# Altium footprint library transistor-small-signal.PCBLIB: 107 footprints (part 1 of 7)
Each footprint in its own frame and in the unit in brackets; x right, y up, seen from the top. Pads: shape width x height; smd on the part's side, far side on the other; paste and mask are expansions set on the pad; w line width, h text height; cw(c..) or ccw(c..) is an arc to the next point about the centre after c.
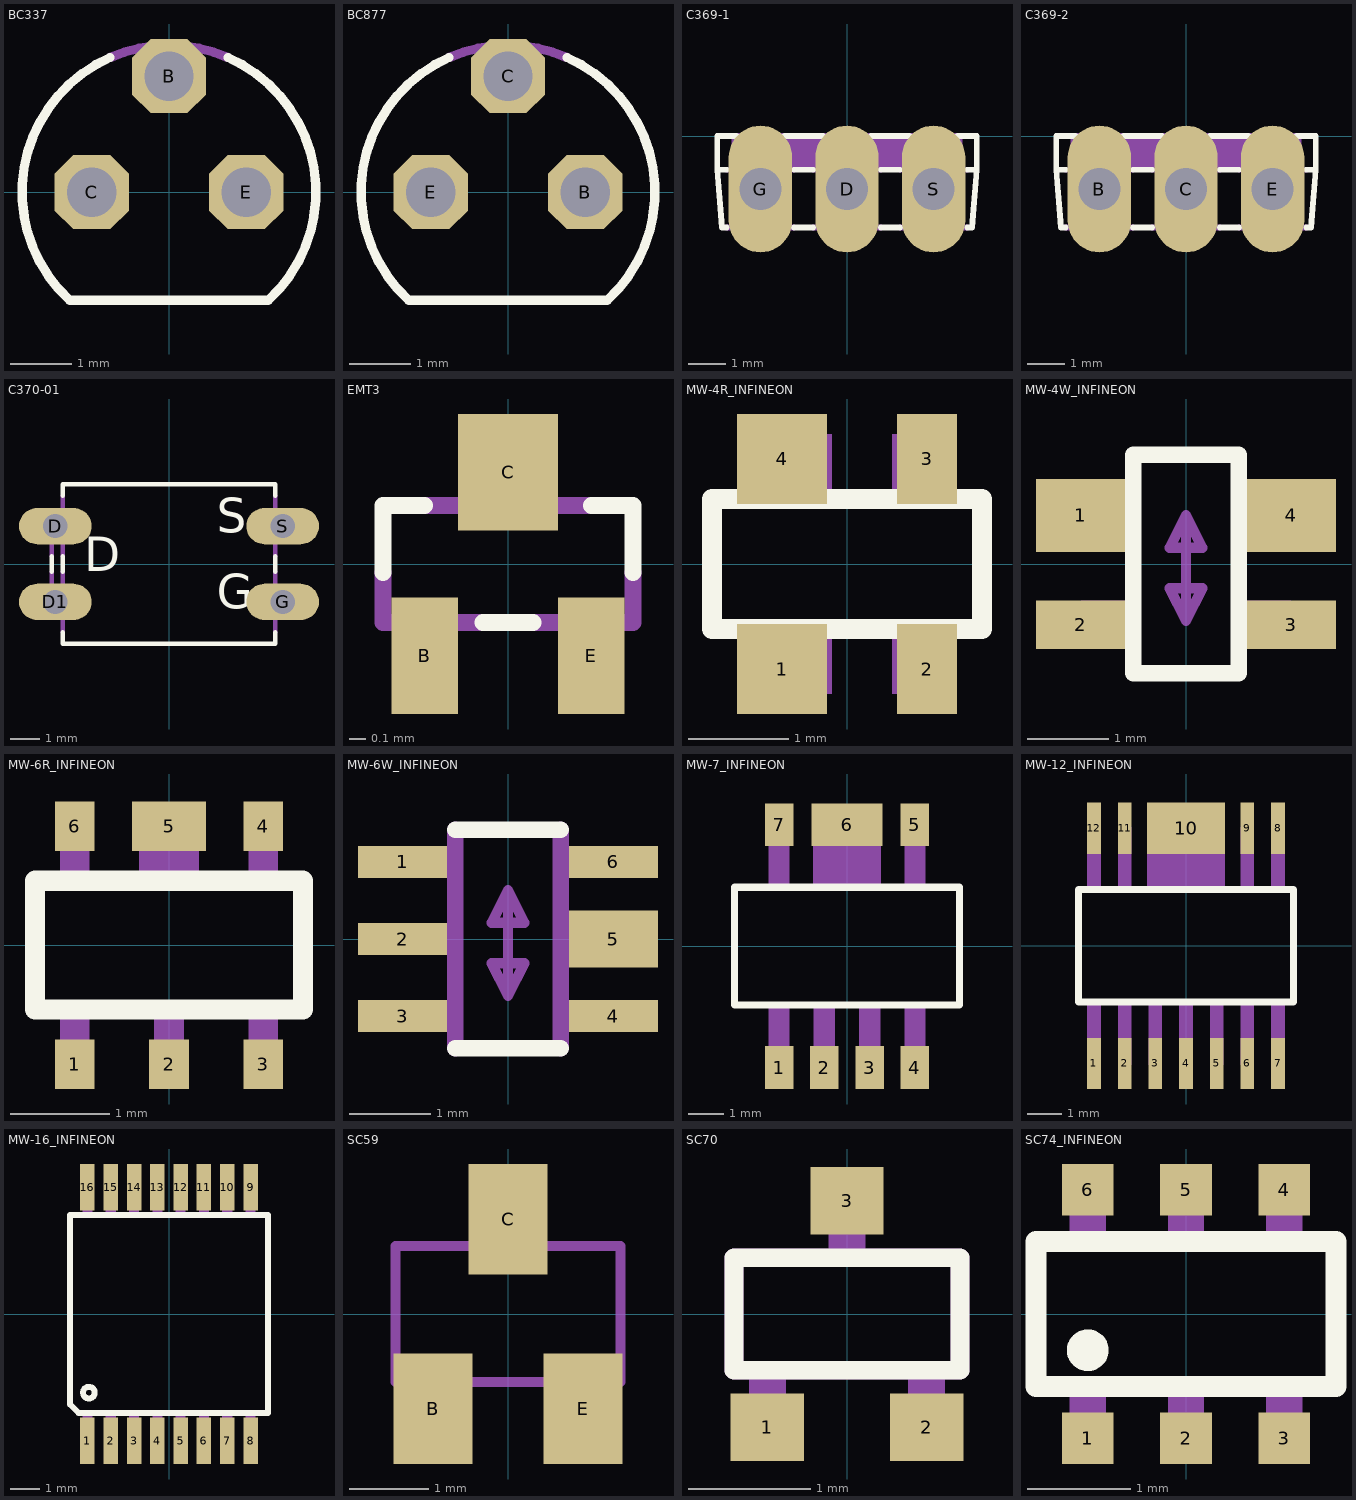
[diagram p0: the footprints below, top view; thin cyan lines are the x and y axes]

## BC337 [mil]
pads (3):
  oct 48x48 hole 32: B(0,75) C(-50,0) E(50,0)
Top Overlay:
  lines w6: -38.15,87 ccw(c0.01,0) -64.21,-70 64.21,-70 ccw(c-0.01,0) 38.15,87
Mechanical 16:
  lines w6: -38.16,87 cw(c0,-0.01) 38.16,87

## BC877 [mil]
pads (3):
  oct 48x48 hole 32: B(50,0) C(0,75) E(-50,0)
Top Overlay:
  lines w6: -38.15,87 ccw(c0.01,0) -64.21,-70 64.21,-70 ccw(c-0.01,0) 38.15,87
Mechanical 16:
  lines w6: -38.16,87 cw(c0,-0.01) 38.16,87

## C369-1 [mil]
pads (3):
  oval 66x132 hole 44: D(0,-55) G(-90,-55) S(90,-55)
Top Overlay:
  lines w6: -125,-95 -130,-95 -135,-35 ; -125,-35 -135,-35 ; -115,0 -135,0 -135,-35 ; -65,0 -25,0 ; -55,-95 -35,-95 ; -55,-35 -35,-35 ; 25,0 65,0 ; 35,-95 55,-95 ; 35,-35 55,-35 ; 115,0 135,0 135,-35 ; 125,-95 130,-95 135,-35 ; 125,-35 135,-35
Mechanical 16:
  rectangle: -120,-35 120,0
  lines w6: -125,-95 -55,-95 ; -125,-35 -55,-35 ; -115,0 -65,0 ; -35,-95 35,-95 ; -35,-35 35,-35 ; -25,0 25,0 ; 55,-95 125,-95 ; 55,-35 125,-35 ; 65,0 115,0

## C369-2 [mil]
pads (3):
  oval 66x132 hole 44: B(-90,-55) C(0,-55) E(90,-55)
Top Overlay:
  lines w6: -125,-95 -130,-95 -135,-35 ; -125,-35 -135,-35 ; -115,0 -135,0 -135,-35 ; -65,0 -25,0 ; -55,-95 -35,-95 ; -55,-35 -35,-35 ; 25,0 65,0 ; 35,-95 55,-95 ; 35,-35 55,-35 ; 115,0 135,0 135,-35 ; 125,-95 130,-95 135,-35 ; 125,-35 135,-35
Mechanical 16:
  rectangle: -120,-35 120,0
  lines w6: -125,-95 -55,-95 ; -125,-35 -55,-35 ; -115,0 -65,0 ; -35,-95 35,-95 ; -35,-35 35,-35 ; -25,0 25,0 ; 55,-95 125,-95 ; 55,-35 125,-35 ; 65,0 115,0

## C370-01 [mil]
pads (4):
  oval 96x48 hole 32: D(-150,50) D1(-150,-50) G(150,-50) S(150,50)
Top Overlay:
  lines w6: -155,-10 -155,10 ; -140,-90 -140,-105 140,-105 140,-90 ; -140,-10 -140,10 ; -140,90 -140,105 140,105 140,90 ; 140,-10 140,10
  text "D" at -112,-25 h77.5
  text "S" at 63,26 h77.5
  text "G" at 63,-74 h77.5
Mechanical 16:
  lines w6: -155,-10 -155,-65 -140,-65 ; -155,10 -155,65 -140,65 ; -140,-90 -140,-65 ; -140,-10 -140,-65 ; -140,10 -140,65 ; -140,90 -140,65 ; 140,-90 140,-65 ; 140,-10 140,-35 ; 140,10 140,35 ; 140,90 140,65 ; 140,-65 140,-35 ; 140,-65 155,-65 155,-35 140,-35 ; 140,35 140,65 ; 140,35 155,35 155,65 140,65

## EMT3 [mil]
pads (3):
  rect 15.75x27.56 smd: B(-19.69,-21.65) E(19.69,-21.65)
  rect 23.62x27.56 smd: C(0,21.65)
Top Overlay:
  lines w4: -29.53,-1.97 -29.53,13.78 -19.69,13.78 ; -5.91,-13.78 5.91,-13.78 ; 19.69,13.78 29.53,13.78 29.53,-1.97
Mechanical 16:
  rectangle: -5.91,13.78 5.91,31.5
  rectangle: 15.75,-31.5 23.62,-13.78
  rectangle: -23.62,-31.5 -15.75,-13.78
  lines w4: -29.53,-1.97 -29.53,-13.78 -5.91,-13.78 ; -19.69,13.78 19.69,13.78 ; 5.91,-13.78 29.53,-13.78 29.53,-1.97

## MW-4R_INFINEON [mil]
pads (4):
  rect 35.43x35.43 smd: 1(-25.59,-41.34) 4(-25.59,41.34)
  rect 23.62x35.43 smd: 2(31.5,-41.34) 3(31.5,41.34)
Top Overlay:
  lines w8: -53.15,-25.59 -53.15,25.59 53.15,25.59 53.15,-25.59 -53.15,-25.59
Mechanical 16:
  rectangle: 17.72,-51.18 33.46,-27.56
  rectangle: 17.72,27.56 33.46,51.18
  rectangle: -33.46,27.56 -5.91,51.18
  rectangle: -33.46,-51.18 -5.91,-27.56

## MW-4W_INFINEON [mil]
pads (4):
  rect 43.31x35.43 smd: 1(-51.18,23.62) 4(51.18,23.62)
  rect 43.31x23.62 smd: 2(-51.18,-29.53) 3(51.18,-29.53)
Top Overlay:
  lines w8: -25.59,-53.15 -25.59,53.15 25.59,53.15 25.59,-53.15 -25.59,-53.15
Mechanical 13:
  lines w5: 0,-27.56 0,23.62 ; 0,-27.56 7.87,-11.81 -7.87,-11.81 0,-27.56 ; 0,23.62 -7.87,7.87 7.87,7.87 0,23.62
  text "direction of pcb" at 15.75,15.75 h15.5
  text "transportation for" at 15.75,-1.97 h15.5
  text "wavesoldering" at 15.75,-19.69 h15.5
Mechanical 16:
  rectangle: -51.18,-33.46 -27.56,-17.72
  rectangle: 27.56,-33.46 51.18,-17.72
  rectangle: 27.56,5.91 51.18,33.46
  rectangle: -51.18,5.91 -27.56,33.46

## MW-6R_INFINEON [mil]
pads (6):
  rect 15.75x19.69 smd: 1(-37.4,-47.24) 2(0,-47.24) 3(37.4,-47.24) 4(37.4,47.24) 6(-37.4,47.24)
  rect 29.53x19.69 smd: 5(0,47.24)
Top Overlay:
  lines w8: -53.15,-25.59 -53.15,25.59 53.15,25.59 53.15,-25.59 -53.15,-25.59
Mechanical 16:
  rectangle: -43.31,-51.18 -31.5,-27.56
  rectangle: -5.91,-51.18 5.91,-27.56
  rectangle: 31.5,-51.18 43.31,-27.56
  rectangle: 31.5,27.56 43.31,51.18
  rectangle: -43.31,27.56 -31.5,51.18
  rectangle: -11.81,27.56 11.81,51.18

## MW-6W_INFINEON [mil]
pads (6):
  rect 43.31x15.75 smd: 1(-51.18,37.4) 2(-51.18,0) 3(-51.18,-37.4) 4(51.18,-37.4) 6(51.18,37.4)
  rect 43.31x27.56 smd: 5(51.18,0)
Top Overlay:
  lines w8: -25.59,-53.15 25.59,-53.15 ; -25.59,53.15 25.59,53.15
Mechanical 13:
  lines w5: 0,-27.56 0,23.62 ; 0,-27.56 7.87,-11.81 -7.87,-11.81 0,-27.56 ; 0,23.62 -7.87,7.87 7.87,7.87 0,23.62
  text "direction of pcb" at 15.75,15.75 h15.5
  text "transportation for" at 15.75,-1.97 h15.5
  text "wavesoldering" at 15.75,-19.69 h15.5
Mechanical 16:
  rectangle: -51.18,31.5 -27.56,43.31
  rectangle: -51.18,-5.91 -27.56,5.91
  rectangle: -51.18,-43.31 -27.56,-31.5
  rectangle: 27.56,-43.31 51.18,-31.5
  rectangle: 27.56,31.5 51.18,43.31
  rectangle: 27.56,-11.81 51.18,11.81
  lines w8: -25.59,-53.15 -25.59,53.15 ; 25.59,-53.15 25.59,53.15

## MW-7_INFINEON [mil]
pads (7):
  rect 31.5x47.24 smd: 1(-74.8,-133.86) 2(-25.04,-133.86) 3(25,-133.9) 4(74.8,-133.86) 5(74.8,133.86) 7(-74.8,133.86)
  rect 78.74x47.24 smd: 6(0,133.86)
Top Overlay:
  lines w8: -124.02,-64.96 -124.02,64.96 124.02,64.96 124.02,-64.96 -124.02,-64.96
Mechanical 16:
  rectangle: -86.81,-137.8 -63.19,-66.93
  rectangle: -36.81,-137.8 -13.19,-66.93
  rectangle: 13.19,-137.8 36.81,-66.93
  rectangle: 63.19,-137.8 86.81,-66.93
  rectangle: 63.19,66.93 86.81,137.8
  rectangle: -86.81,66.93 -63.19,137.8
  rectangle: -37.4,66.93 37.4,137.8

## MW-12_INFINEON [mil]
pads (12):
  rect 15.75x59.06 smd: 1(-106.3,-135.83) 2(-70.87,-135.83) 3(-35.43,-135.83) 4(0,-135.83) 5(35.43,-135.83) 6(70.87,-135.83) 7(106.3,-135.83) 8(106.3,135.83) 9(70.87,135.83) 11(-70.87,135.83) 12(-106.3,135.83)
  rect 90.55x59.06 smd: 10(0,135.83)
Top Overlay:
  lines w8: -124.02,-64.96 -124.02,64.96 124.02,64.96 124.02,-64.96 -124.02,-64.96
Mechanical 16:
  rectangle: -114.17,-137.8 -98.43,-66.93
  rectangle: -78.74,-137.8 -62.99,-66.93
  rectangle: -43.31,-137.8 -27.56,-66.93
  rectangle: -7.87,-137.8 7.87,-66.93
  rectangle: 27.56,-137.8 43.31,-66.93
  rectangle: 62.99,-137.8 78.74,-66.93
  rectangle: 98.43,-137.8 114.17,-66.93
  rectangle: 98.43,66.93 114.17,137.8
  rectangle: 62.99,66.93 78.74,137.8
  rectangle: -45.28,66.93 45.28,137.8
  rectangle: -78.74,66.93 -62.99,137.8
  rectangle: -114.17,66.93 -98.43,137.8

## MW-16_INFINEON [mm]
pads (16):
  rect 0.5x1.6 smd: 1(-2.8,-4.35) 2(-2,-4.35) 3(-1.2,-4.35) 4(-0.4,-4.35) 5(0.4,-4.35) 6(1.2,-4.35) 7(2,-4.35) 8(2.8,-4.35) 9(2.8,4.35) 10(2,4.35) 11(1.2,4.35) 12(0.4,4.35) 13(-0.4,4.35) 14(-1.2,4.35) 15(-2,4.35) 16(-2.8,4.35)
Top Overlay:
  circle w0.203: c-2.75,-2.7 r0.2
  lines w0.203: -3.4,-3.1 -3.4,3.4 3.4,3.4 3.4,-3.4 -3.1,-3.4 -3.4,-3.1
Mechanical 16:
  rectangle: -2.175,-4.5 -1.825,-3.475
  rectangle: -1.375,-4.5 -1.025,-3.475
  rectangle: -0.575,-4.5 -0.225,-3.475
  rectangle: 0.225,-4.5 0.575,-3.475
  rectangle: 1.025,-4.5 1.375,-3.475
  rectangle: 1.825,-4.5 2.175,-3.475
  rectangle: 2.625,-4.5 2.975,-3.475
  rectangle: 2.625,3.475 2.975,4.5
  rectangle: 1.825,3.475 2.175,4.5
  rectangle: 1.025,3.475 1.375,4.5
  rectangle: 0.225,3.475 0.575,4.5
  rectangle: -0.575,3.475 -0.225,4.5
  rectangle: -1.375,3.475 -1.025,4.5
  rectangle: -2.175,3.475 -1.825,4.5
  rectangle: -2.975,3.475 -2.625,4.5
  rectangle: -2.975,-4.5 -2.625,-3.475

## SC59 [mm]
pads (3):
  rect 1x1.4 smd: B(-0.95,-1.2) C(0,1.2) E(0.95,-1.2)
Mechanical 16:
  rectangle: -0.229,0.911 0.229,1.495
  rectangle: 0.711,-1.495 1.168,-0.911
  rectangle: -1.168,-1.495 -0.711,-0.911
  lines w0.127: -1.422,-0.86 1.422,-0.86 1.422,0.86 -1.422,0.86 -1.422,-0.86

## SC70 [mm]
pads (3):
  rect 0.6x0.55 smd: 1(-0.65,-0.925) 2(0.65,-0.925) 3(0,0.925)
Top Overlay:
  lines w0.152: -0.923,-0.461 0.923,-0.461 0.923,0.461 -0.923,0.461 -0.923,-0.461
Mechanical 16:
  rectangle: -0.8,-1.1 -0.5,-0.5
  rectangle: 0.5,-1.1 0.8,-0.5
  rectangle: -0.15,0.5 0.15,1.1
  lines w0.152: -0.923,-0.461 0.923,-0.461 0.923,0.461 -0.923,0.461 -0.923,-0.461

## SC74_INFINEON [mil]
pads (6):
  rect 19.69x19.69 smd: 1(-37.4,-47.24) 2(0,-47.24) 3(37.4,-47.24) 4(37.4,47.24) 5(0,47.24) 6(-37.4,47.24)
Top Overlay:
  circle w8: c-37.4,-13.78 r3.94
  lines w8: -57.09,-27.56 -57.09,27.56 57.09,27.56 57.09,-27.56 -57.09,-27.56
Mechanical 16:
  rectangle: -44.29,-51.18 -30.51,-30.51
  rectangle: -6.89,-51.18 6.89,-30.51
  rectangle: 30.51,-51.18 44.29,-30.51
  rectangle: 30.51,30.51 44.29,51.18
  rectangle: -6.89,30.51 6.89,51.18
  rectangle: -44.29,30.51 -30.51,51.18